# EAGLE library part ADXRS150 (library special_parts)
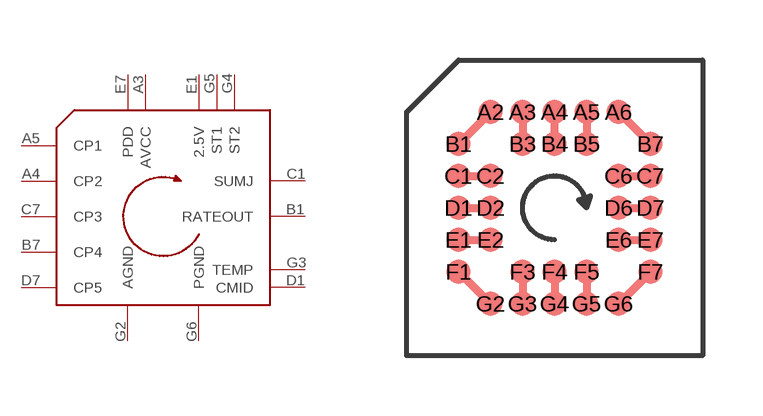
[diagram p0: symbol with the pads of BC-32; footprint BC-32]

Designator prefix -

## ADXRS150  [BC-32]
A3  AVCC  sup
A4  CP2
A5  CP1
B1  RATEOUT  out
B7  CP4
C1  SUMJ  out
C7  CP3
D1  CMID
D7  CP5
E1  2.5V  sup
E7  PDD  sup
G2  AGND  sup
G3  TEMP  out
G4  ST2  in
G5  ST1  in
G6  PGND  sup

## Footprint BC-32 (pad centres in mm)
smd 0.6 x 0.6: A2 -1.6,2.4; A3 -0.8,2.4; A4 0,2.4; A5 0.8,2.4; A6 1.6,2.4; B1 -2.4,1.6; B3 -0.8,1.6; B4 0,1.6; B5 0.8,1.6; B7 2.4,1.6; C1 -2.4,0.8; C2 -1.6,0.8; C6 1.6,0.8; C7 2.4,0.8; D1 -2.4,0; D2 -1.6,0; D6 1.6,0; D7 2.4,0; E1 -2.4,-0.8; E2 -1.6,-0.8; E6 1.6,-0.8; E7 2.4,-0.8; F1 -2.4,-1.6; F3 -0.8,-1.6; F4 0,-1.6; F5 0.8,-1.6; F7 2.4,-1.6; G2 -1.6,-2.4; G3 -0.8,-2.4; G4 0,-2.4; G5 0.8,-2.4; G6 1.6,-2.4